# Altium integrated library Altera EPC Configuration Device.IntLib: 34 symbols (part 2 of 3)
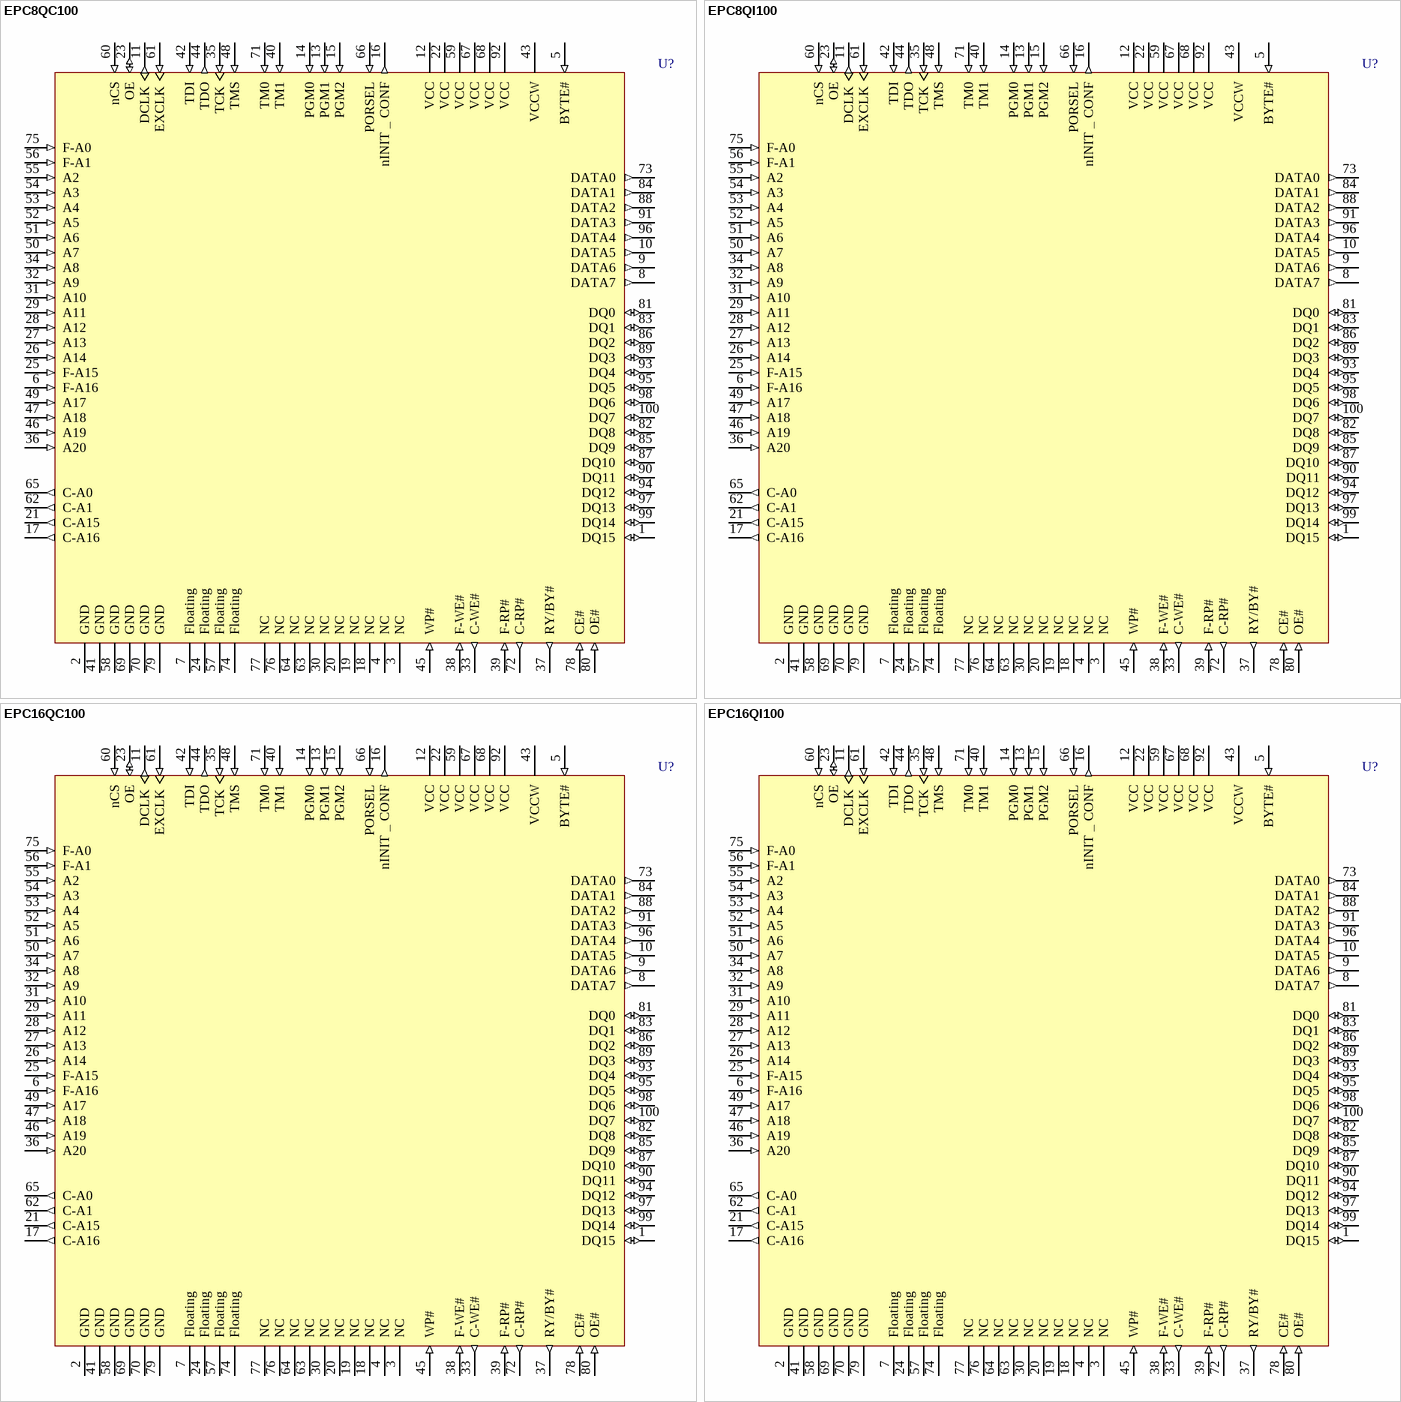
[diagram p3: symbols EPC8QC100 to EPC16QI100]

## EPC16QC100
designator U?
EPC16 Series, In-system programmable 3.3V configuration device, 100-Pin PQFP, 16-Megabit, Commercial Grade; Configures: Stratix II, Stratix, Stratix GX, Cyclone II, Cyclone, APEX II, APEX, FLEX, Mercury, ACEX & Excalibur Devices; Published: 17-Sep-2003; LatestRevisionDate: 13-Apr-2006; LatestRevisionNote: IPC-7351 Footprint Added.; DatasheetVersion: ver2.0, Oct-2003; PackageVersion: ver14.3, Jul-2006; PackageReference: PQFP100; Publisher: Altium Limited; PackageDescription: 100-Pin Plastic Quad Flat Pack (PFQP100) - Option 1; Supplier 1: Digi-Key; Supplier Part Number 1: 544-1226-ND; Code_JEDEC: MS-022-GC-1; Code_IPC: QFP65P1720X2320-100; ComponentLink1Description: Manufacturer Link; ComponentLink1URL: http://www.altera.com/products/devices/config/cfg-index.html; ComponentLink2Description: Configuration Handbook; ComponentLink2URL: http://www.altera.com/literature/hb/cfg/config_handbook.pdf; ComponentLink3Description: Pinout Specification; ComponentLink3URL: http://www.altera.com/literature/dp/config/epc16.txt; ComponentLink4Description: Packaging Specification; ComponentLink4URL: http://www.altera.com/literature/ds/dspkg.pdf
footprint PQFP100_N (QFP, 100-Leads, Body 20x14mm, Pitch 0.65mm, IPC Medium Density)
footprint PQFP100_L (QFP, 100-Leads, Body 20x14mm, Pitch 0.65mm, IPC High Density)
footprint PQFP100_M (QFP, 100-Leads, Body 20x14mm, Pitch 0.65mm, IPC Low Density)
3D model EPC16-PQFP100 (100-Pin Plastic Quad Flat Pack (PFQP100) - Option 1)
pins: 1 DQ15 (io) "Data bus that interfaces with flash memory and the controller.", 2 GND (power) "Ground pin", 3 NC "No Connect pin", 4 NC "No Connect pin", 5 BYTE# (in) "Flash byte enable. Connected to VCC.", 6 F-A16 (in) "Address input to flash memory. Should be connected to C-A16 on the board.", 7 Floating "Unconnected pin", 8 DATA7 (out) "PLD configuration output data bus.", 9 DATA6 (out) "PLD configuration output data bus.", 10 DATA5 (out) "PLD configuration output data bus.", 11 DCLK (out) "Configuration devices drive this signal to the programmable logic device (PLD) as a configuration clock.", 12 VCC (power) "Power supply pin", 13 PGM1 (in) "Select one of eight pages that contains configuration data.", 14 PGM0 (in) "Select one of eight pages that contains configuration data.", 15 PGM2 (in) "Select one of eight pages that contains configuration data.", 16 nINIT _ CONF (out) "Initiate configuration.", 17 C-A16 (out) "Address input to flash memory. Should be connected to F-A16 on the board.", 18 NC "No Connect pin", 19 NC "No Connect pin", 20 NC "No Connect pin", 21 C-A15 (out) "Address input to flash memory. Should be connected to F-A15 on the board.", 22 VCC (power) "Power supply pin", 23 OE (io) "Configuration devices sense that OE goes high, before starting PLD configuration.", 24 Floating "Unconnected pin", 25 F-A15 (in) "Address input to flash memory. Should be connected to C-A15 on the board.", 26 A14 (in) "Address input to flash memory.", 27 A13 (in) "Address input to flash memory.", 28 A12 (in) "Address input to flash memory.", 29 A11 (in) "Address input to flash memory.", 30 NC "No Connect pin", 31 A10 (in) "Address input to flash memory.", 32 A9 (in) "Address input to flash memory.", 33 C-WE# (out) "Controller write enable pin. Should be connected to F-WE# on the board", 34 A8 (in) "Address input to flash memory.", 35 TCK (in) "JTAG clock.", 36 A20 (in) "Address input to flash memory.", 37 RY/BY# (out) "Flash ready busy pin. Will be asserted when write or erase operation is completed.", 38 F-WE# (in) "Flash write enable pin. Should be connected to C-WE# on the board", 39 F-RP# (in) "Flash pin which resets the flash memory. Should be connected to C-RP# on the board.", 40 TM1 (in) "Select test mode for configuration device.", 41 GND (power) "Ground pin", 42 TDI (in) "Joint Test Action Group (JTAG) data input.", 43 VCCW (power) "Flash program/erase power supply.", 44 TDO (out) "JTAG data output.", 45 WP# (in) "Flash pin which should be tied to VCC or GND on the board.", 46 A19 (in) "Address input to flash memory.", 47 A18 (in) "Address input to flash memory.", 48 TMS (in) "JTAG mode selection.", 49 A17 (in) "Address input to flash memory.", 50 A7 (in) "Address input to flash memory.", 51 A6 (in) "Address input to flash memory.", 52 A5 (in) "Address input to flash memory.", 53 A4 (in) "Address input to flash memory.", 54 A3 (in) "Address input to flash memory.", 55 A2 (in) "Address input to flash memory.", 56 F-A1 (in) "Address input to flash memory. Should be connected to C-A1 on the board.", 57 Floating "Unconnected pin", 58 GND (power) "Ground pin", 59 VCC (power) "Power supply pin", 60 nCS (in) "Connected to CONF_DONE in the PLD. The PLD will drive it low, when OE is asserted.", 61 EXCLK (in) "External clock source.", 62 C-A1 (out) "Address input to flash memory. Should be connected to F-A1 on the board.", 63 NC "No Connect pin", 64 NC "No Connect pin", 65 C-A0 (out) "Address input to flash memory. Should be connected to F-A0 on the board.", 66 PORSEL (in) "Select 2 ms or 100 ms power-on reset (POR).", 67 VCC (power) "Power supply pin", 68 VCC (power) "Power supply pin", 69 GND (power) "Ground pin", 70 GND (power) "Ground pin", 71 TM0 (in) "Select test mode for configuration device.", 72 C-RP# (out) "Flash pin which resets the flash memory. Should be connected to F-RP# on the board.", 73 DATA0 (out) "PLD configuration output data bus.", 74 Floating "Unconnected pin", 75 F-A0 (in) "Address input to Flash memory. Should be connected to C-A0 on the board.", 76 NC "No Connect pin", 77 NC "No Connect pin", 78 CE# (in) "Flash pin that activates the flash memory.", 79 GND (power) "Ground pin", 80 OE# (in) "Flash pin that enables the drivers of the flash output pins.", 81 DQ0 (io) "Data bus that interfaces with flash memory and the controller.", 82 DQ8 (io) "Data bus that interfaces with flash memory and the controller.", 83 DQ1 (io) "Data bus that interfaces with flash memory and the controller.", 84 DATA1 (out) "PLD configuration output data bus.", 85 DQ9 (io) "Data bus that interfaces with flash memory and the controller.", 86 DQ2 (io) "Data bus that interfaces with flash memory and the controller.", 87 DQ10 (io) "Data bus that interfaces with flash memory and the controller.", 88 DATA2 (out) "PLD configuration output data bus.", 89 DQ3 (io) "Data bus that interfaces with flash memory and the controller.", 90 DQ11 (io) "Data bus that interfaces with flash memory and the controller.", 91 DATA3 (out) "PLD configuration output data bus.", 92 VCC (power) "Power supply pin", 93 DQ4 (io) "Data bus that interfaces with flash memory and the controller.", 94 DQ12 (io) "Data bus that interfaces with flash memory and the controller.", 95 DQ5 (io) "Data bus that interfaces with flash memory and the controller.", 96 DATA4 (out) "PLD configuration output data bus.", 97 DQ13 (io) "Data bus that interfaces with flash memory and the controller.", 98 DQ6 (io) "Data bus that interfaces with flash memory and the controller.", 99 DQ14 (io) "Data bus that interfaces with flash memory and the controller.", 100 DQ7 (io) "Data bus that interfaces with flash memory and the controller."

## EPC16QI100
designator U?
EPC16 Series, In-system programmable 3.3V configuration device, 100-Pin PQFP, 16-Megabit, Industrial Grade; Configures: Stratix II, Stratix, Stratix GX, Cyclone II, Cyclone, APEX II, APEX, FLEX, Mercury, ACEX & Excalibur Devices; Published: 17-Sep-2003; LatestRevisionDate: 13-Apr-2006; LatestRevisionNote: IPC-7351 Footprint Added.; DatasheetVersion: ver2.0, Oct-2003; PackageVersion: ver14.3, Jul-2006; PackageReference: PQFP100; Publisher: Altium Limited; PackageDescription: 100-Pin Plastic Quad Flat Pack (PFQP100) - Option 1; Supplier 1: Digi-Key; Supplier Part Number 1: 544-1227-ND; Code_JEDEC: MS-022-GC-1; Code_IPC: QFP65P1720X2320-100; ComponentLink1Description: Manufacturer Link; ComponentLink1URL: http://www.altera.com/products/devices/config/cfg-index.html; ComponentLink2Description: Configuration Handbook; ComponentLink2URL: http://www.altera.com/literature/hb/cfg/config_handbook.pdf; ComponentLink3Description: Pinout Specification; ComponentLink3URL: http://www.altera.com/literature/dp/config/epc16.txt; ComponentLink4Description: Packaging Specification; ComponentLink4URL: http://www.altera.com/literature/ds/dspkg.pdf
footprint PQFP100_N (QFP, 100-Leads, Body 20x14mm, Pitch 0.65mm, IPC Medium Density)
footprint PQFP100_L (QFP, 100-Leads, Body 20x14mm, Pitch 0.65mm, IPC High Density)
footprint PQFP100_M (QFP, 100-Leads, Body 20x14mm, Pitch 0.65mm, IPC Low Density)
3D model EPC16-PQFP100 (100-Pin Plastic Quad Flat Pack (PFQP100) - Option 1)
pins: 1 DQ15 (io) "Data bus that interfaces with flash memory and the controller.", 2 GND (power) "Ground pin", 3 NC "No Connect pin", 4 NC "No Connect pin", 5 BYTE# (in) "Flash byte enable. Connected to VCC.", 6 F-A16 (in) "Address input to flash memory. Should be connected to C-A16 on the board.", 7 Floating "Unconnected pin", 8 DATA7 (out) "PLD configuration output data bus.", 9 DATA6 (out) "PLD configuration output data bus.", 10 DATA5 (out) "PLD configuration output data bus.", 11 DCLK (out) "Configuration devices drive this signal to the programmable logic device (PLD) as a configuration clock.", 12 VCC (power) "Power supply pin", 13 PGM1 (in) "Select one of eight pages that contains configuration data.", 14 PGM0 (in) "Select one of eight pages that contains configuration data.", 15 PGM2 (in) "Select one of eight pages that contains configuration data.", 16 nINIT _ CONF (out) "Initiate configuration.", 17 C-A16 (out) "Address input to flash memory. Should be connected to F-A16 on the board.", 18 NC "No Connect pin", 19 NC "No Connect pin", 20 NC "No Connect pin", 21 C-A15 (out) "Address input to flash memory. Should be connected to F-A15 on the board.", 22 VCC (power) "Power supply pin", 23 OE (io) "Configuration devices sense that OE goes high, before starting PLD configuration.", 24 Floating "Unconnected pin", 25 F-A15 (in) "Address input to flash memory. Should be connected to C-A15 on the board.", 26 A14 (in) "Address input to flash memory.", 27 A13 (in) "Address input to flash memory.", 28 A12 (in) "Address input to flash memory.", 29 A11 (in) "Address input to flash memory.", 30 NC "No Connect pin", 31 A10 (in) "Address input to flash memory.", 32 A9 (in) "Address input to flash memory.", 33 C-WE# (out) "Controller write enable pin. Should be connected to F-WE# on the board", 34 A8 (in) "Address input to flash memory.", 35 TCK (in) "JTAG clock.", 36 A20 (in) "Address input to flash memory.", 37 RY/BY# (out) "Flash ready busy pin. Will be asserted when write or erase operation is completed.", 38 F-WE# (in) "Flash write enable pin. Should be connected to C-WE# on the board", 39 F-RP# (in) "Flash pin which resets the flash memory. Should be connected to C-RP# on the board.", 40 TM1 (in) "Select test mode for configuration device.", 41 GND (power) "Ground pin", 42 TDI (in) "Joint Test Action Group (JTAG) data input.", 43 VCCW (power) "Flash program/erase power supply.", 44 TDO (out) "JTAG data output.", 45 WP# (in) "Flash pin which should be tied to VCC or GND on the board.", 46 A19 (in) "Address input to flash memory.", 47 A18 (in) "Address input to flash memory.", 48 TMS (in) "JTAG mode selection.", 49 A17 (in) "Address input to flash memory.", 50 A7 (in) "Address input to flash memory.", 51 A6 (in) "Address input to flash memory.", 52 A5 (in) "Address input to flash memory.", 53 A4 (in) "Address input to flash memory.", 54 A3 (in) "Address input to flash memory.", 55 A2 (in) "Address input to flash memory.", 56 F-A1 (in) "Address input to flash memory. Should be connected to C-A1 on the board.", 57 Floating "Unconnected pin", 58 GND (power) "Ground pin", 59 VCC (power) "Power supply pin", 60 nCS (in) "Connected to CONF_DONE in the PLD. The PLD will drive it low, when OE is asserted.", 61 EXCLK (in) "External clock source.", 62 C-A1 (out) "Address input to flash memory. Should be connected to F-A1 on the board.", 63 NC "No Connect pin", 64 NC "No Connect pin", 65 C-A0 (out) "Address input to flash memory. Should be connected to F-A0 on the board.", 66 PORSEL (in) "Select 2 ms or 100 ms power-on reset (POR).", 67 VCC (power) "Power supply pin", 68 VCC (power) "Power supply pin", 69 GND (power) "Ground pin", 70 GND (power) "Ground pin", 71 TM0 (in) "Select test mode for configuration device.", 72 C-RP# (out) "Flash pin which resets the flash memory. Should be connected to F-RP# on the board.", 73 DATA0 (out) "PLD configuration output data bus.", 74 Floating "Unconnected pin", 75 F-A0 (in) "Address input to Flash memory. Should be connected to C-A0 on the board.", 76 NC "No Connect pin", 77 NC "No Connect pin", 78 CE# (in) "Flash pin that activates the flash memory.", 79 GND (power) "Ground pin", 80 OE# (in) "Flash pin that enables the drivers of the flash output pins.", 81 DQ0 (io) "Data bus that interfaces with flash memory and the controller.", 82 DQ8 (io) "Data bus that interfaces with flash memory and the controller.", 83 DQ1 (io) "Data bus that interfaces with flash memory and the controller.", 84 DATA1 (out) "PLD configuration output data bus.", 85 DQ9 (io) "Data bus that interfaces with flash memory and the controller.", 86 DQ2 (io) "Data bus that interfaces with flash memory and the controller.", 87 DQ10 (io) "Data bus that interfaces with flash memory and the controller.", 88 DATA2 (out) "PLD configuration output data bus.", 89 DQ3 (io) "Data bus that interfaces with flash memory and the controller.", 90 DQ11 (io) "Data bus that interfaces with flash memory and the controller.", 91 DATA3 (out) "PLD configuration output data bus.", 92 VCC (power) "Power supply pin", 93 DQ4 (io) "Data bus that interfaces with flash memory and the controller.", 94 DQ12 (io) "Data bus that interfaces with flash memory and the controller.", 95 DQ5 (io) "Data bus that interfaces with flash memory and the controller.", 96 DATA4 (out) "PLD configuration output data bus.", 97 DQ13 (io) "Data bus that interfaces with flash memory and the controller.", 98 DQ6 (io) "Data bus that interfaces with flash memory and the controller.", 99 DQ14 (io) "Data bus that interfaces with flash memory and the controller.", 100 DQ7 (io) "Data bus that interfaces with flash memory and the controller."

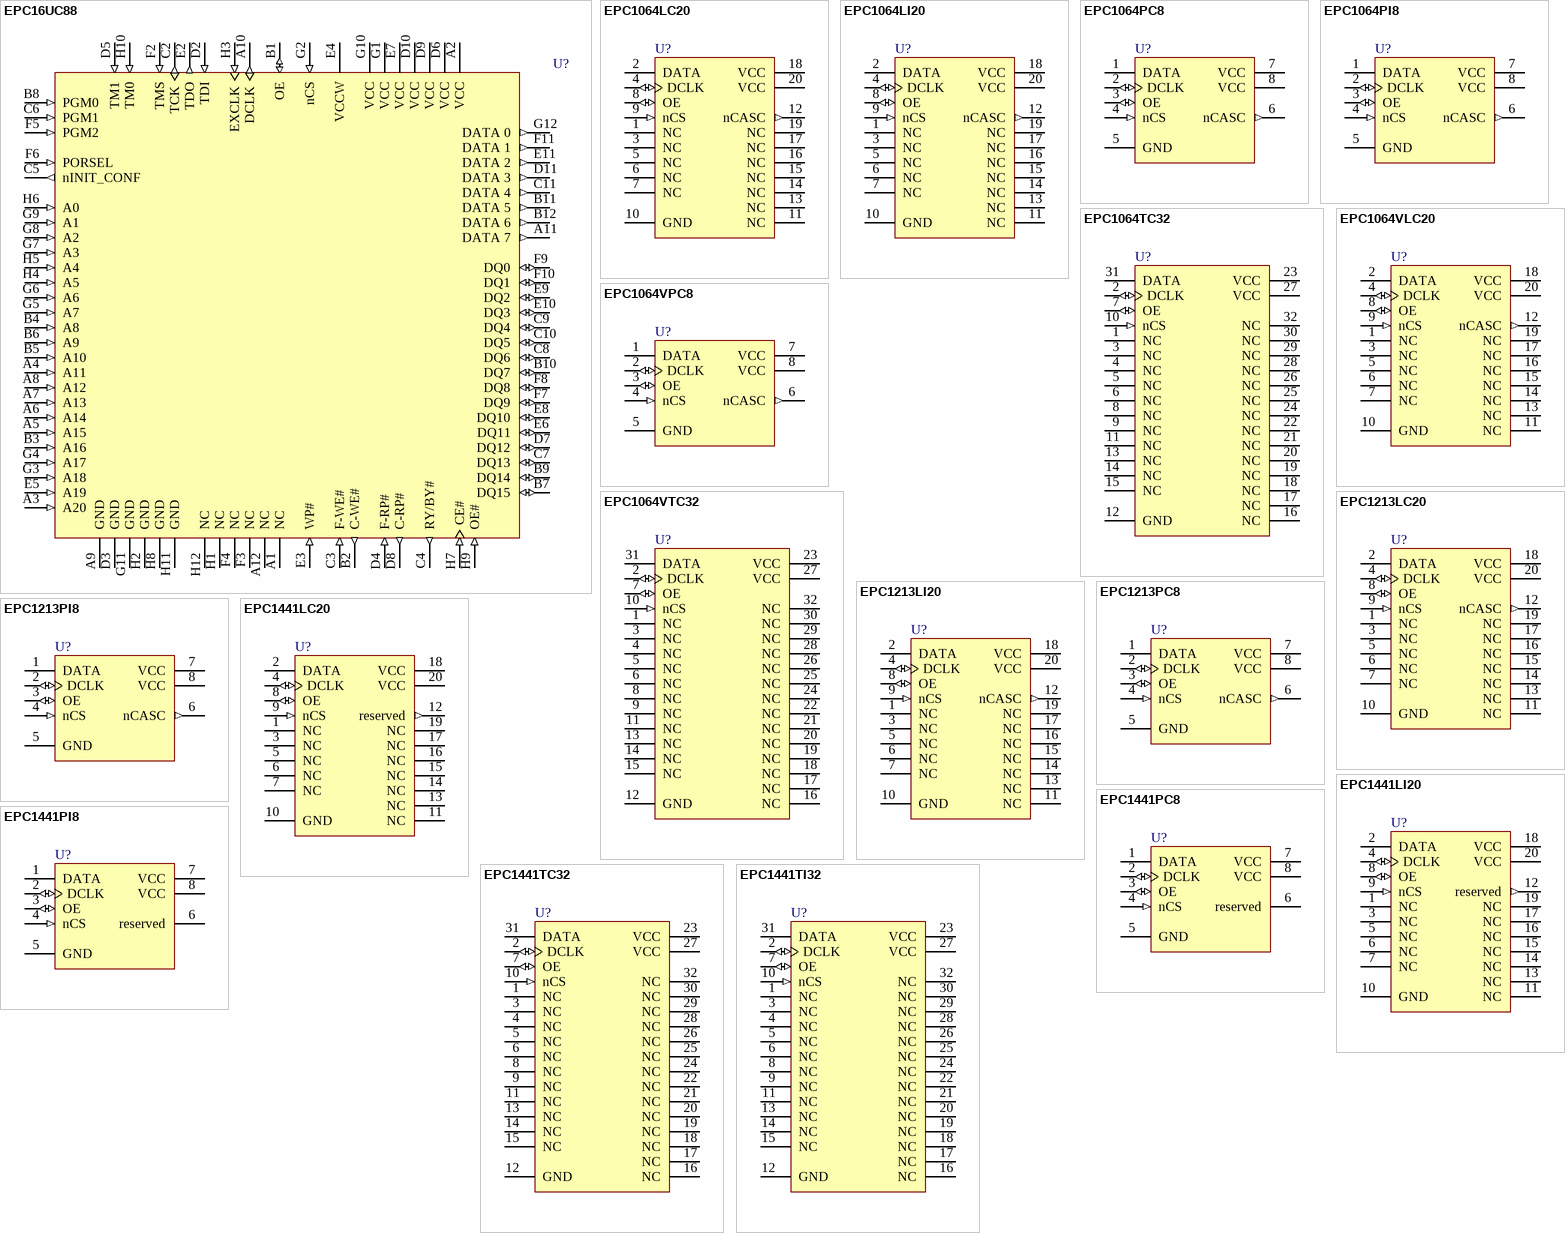
[diagram p2: symbols EPC16UC88 to EPC1441TI32]

## EPC16UC88
designator U?
EPC16 Series, In-system programmable 3.3V configuration device, 88-Pin UBGA, 16-Megabit, Commercial Grade; Configures: Stratix II, Stratix, Stratix GX, Cyclone II, Cyclone, APEX II, APEX, FLEX, Mercury, ACEX & Excalibur Devices; Published: 17-Sep-2003; LatestRevisionDate: 13-Apr-2006; LatestRevisionNote: IPC-7351 Footprint Added.; DatasheetVersion: ver2.0, Oct-2003; PackageVersion: ver14.2, Oct-2005; PackageReference: UBGA88; Publisher: Altium Limited; PackageDescription: 88-Pin Ultra FineLine Ball Grid Array (UBGA88); Supplier 1: Digi-Key; Supplier Part Number 1: 544-1228-ND; Code_JEDEC: MO-219; ComponentLink1Description: Manufacturer Link; ComponentLink1URL: http://www.altera.com/products/devices/config/cfg-index.html; ComponentLink2Description: Configuration Handbook; ComponentLink2URL: http://www.altera.com/literature/hb/cfg/config_handbook.pdf; ComponentLink3Description: Pinout Specification; ComponentLink3URL: http://www.altera.com/literature/dp/config/epc16_88.txt; ComponentLink4Description: Packaging Specification; ComponentLink4URL: http://www.altera.com/literature/ds/dspkg.pdf
footprint UBGA88 (BGA, 88-Leads, Body 8x11mm, Pitch 0.8mm)
3D model EPC16-UBGA88 (88-Pin Ultra FineLine Ball Grid Array (UBGA88))
pins: A1 NC "No Connect", A2 VCC (power) "Power Supply", A3 A20 (in) "Address input", A4 A11 (in) "Address input", A5 A15 (in) "Address input", A6 A14 (in) "Address input", A7 A13 (in) "Address input", A8 A12 (in) "Address input", A9 GND (power) "Ground", A10 DCLK (out), A11 DATA 7 (out) "PLD configuration output data bus", A12 NC "No Connect", B1 OE (io), B2 C-WE# (out) "Controller write enable pin. Should be connected to F-WE# on the board.", B3 A16 (in) "Address input", B4 A8 (in) "Address input", B5 A10 (in) "Address input", B6 A9 (in) "Address input", B7 DQ15 (io) "Data bus", B8 PGM0 (in) "Select page of configuration data.", B9 DQ14 (io) "Data bus", B10 DQ7 (io) "Data bus", B11 DATA 5 (out) "PLD configuration output data bus", B12 DATA 6 (out) "PLD configuration output data bus", C2 TCK (out) "JTAG clock pin", C3 F-WE# (in) "Write enable pin. Should be connected to C-WE# on the board", C4 RY/BY# (out) "Flash ready busy pin", C5 nINIT_CONF (out) "Initiate configuration.", C6 PGM1 (in) "Select page of configuration data.", C7 DQ13 (io) "Data bus", C8 DQ6 (io) "Data bus", C9 DQ4 (io) "Data bus", C10 DQ5 (io) "Data bus", C11 DATA 4 (out) "PLD configuration output data bus", D2 TDI (in) "JTAG data input", D3 GND (power) "Ground", D4 F-RP# (in) "Resets the flash memory. Should be connected to C-RP# on the board.", D5 TM1 (in) "Select test mode", D6 VCC (power) "Power Supply", D7 DQ12 (io) "Data bus", D8 C-RP# (out) "Flash pin that resets the flash memory. Should be connected to F-RP# on the board.", D9 VCC (power) "Power Supply", D10 VCC (power) "Power Supply", D11 DATA 3 (out) "PLD configuration output data bus", E2 TDO (out) "JTAG data output", E3 WP# (in) "Flash pin which should be tied to VCC or GND", E4 VCCW (power) "Flash program/erase power supply", E5 A19 (in) "Address input", E6 DQ11 (io) "Data bus", E7 VCC (power) "Power Supply", E8 DQ10 (io) "Data bus", E9 DQ2 (io) "Data bus", E10 DQ3 (io) "Data bus", E11 DATA 2 (out) "PLD configuration output data bus", F2 TMS (in) "JTAG mode selection", F3 NC "No Connect", F4 NC "No Connect", F5 PGM2 (in) "Select page of configuration data", F6 PORSEL (in) "Select 2 ms or 100 ms power-on reset", F7 DQ9 (io) "Data bus", F8 DQ8 (io) "Data bus", F9 DQ0 (io) "Data bus", F10 DQ1 (io) "Data bus", F11 DATA 1 (out) "PLD configuration output data bus", G1 VCC (power) "Power Supply", G2 nCS (in), G3 A18 (in) "Address input", G4 A17 (in) "Address input", G5 A7 (in) "Address input", G6 A6 (in) "Address input", G7 A3 (in) "Address input", G8 A2 (in) "Address input", G9 A1 (in) "Address input", G10 VCC (power) "Power Supply", G11 GND (power) "Ground", G12 DATA 0 (out) "PLD configuration output data bus", H1 NC "No Connect", H2 GND (power) "Ground", H3 EXCLK (in) "External clock source", H4 A5 (in) "Address input", H5 A4 (in) "Address input", H6 A0 (in) "Address input", H7 CE# (in) "Activates the flash memory", H8 GND (power) "Ground", H9 OE# (in) "Enables the drivers of the flash output pins.", H10 TM0 (in) "Select test mode", H11 GND (power) "Ground", H12 NC "No Connect"

## EPC1064LC20
designator U?
EPC1064 Series, One-time programmable 5V configuration device, 20-Pin PLCC, 64-Kilobit, Commercial Grade; Configures: APEX II, APEX 20K, Mercury, ACEX 1K & FLEX Devices; Published: 24-Nov-2000; LatestRevisionDate: 13-Apr-2006; LatestRevisionNote: IPC-7351 Footprint Added.; DatasheetVersion: ver2.0, Oct-2003; PackageVersion: ver14.2, Oct-2005; PackageReference: PLCC20; Publisher: Altium Limited; PackageDescription: 20-Pin Plastic J-Lead Chip Carrier (PLCC20); Code_JEDEC: MS-018-AA; Code_IPC: PLCC-20; ComponentLink1Description: Manufacturer Link; ComponentLink1URL: http://www.altera.com/products/devices/config/cfg-index.html; ComponentLink2Description: Configuration Handbook; ComponentLink2URL: http://www.altera.com/literature/hb/cfg/config_handbook.pdf; ComponentLink3Description: Pinout Specification; ComponentLink3URL: http://www.altera.com/literature/hb/cfg/cfg_cf52004.pdf; ComponentLink4Description: Packaging Specification; ComponentLink4URL: http://www.altera.com/literature/ds/dspkg.pdf
footprint PLCC20_N (Leaded Chip Carrier, 20-Leads, Body 9x9mm, Pitch 1.27mm, IPC Medium Density)
footprint PLCC20_L (Leaded Chip Carrier, 20-Leads, Body 9x9mm, Pitch 1.27mm, IPC High Density)
footprint PLCC20_M (Leaded Chip Carrier, 20-Leads, Body 9x9mm, Pitch 1.27mm, IPC Low Density)
3D model EPC1064-PLCC20 (20-Pin Plastic J-Lead Chip Carrier (PLCC20))
pins: 1 NC "No Connect", 2 DATA (hiz) "Serial data out", 3 NC "No Connect", 4 DCLK (io), 5 NC "No Connect", 6 NC "No Connect", 7 NC "No Connect", 8 OE (io) "Output enable, and active low reset", 9 nCS (in) "Active low, chip select input", 10 GND (power) "Ground", 11 NC "No Connect", 12 nCASC (out) "Active low, cascade select output", 13 NC "No Connect", 14 NC "No Connect", 15 NC "No Connect", 16 NC "No Connect", 17 NC "No Connect", 18 VCC (power) "Power Supply", 19 NC "No Connect", 20 VCC (power) "Power Supply"

## EPC1064LI20
designator U?
EPC1064 Series, One-time programmable 5V configuration device, 20-Pin PLCC, 64-Kilobit, Industrial Grade; Configures: APEX II, APEX 20K, Mercury, ACEX 1K & FLEX Devices; Published: 24-Nov-2000; LatestRevisionDate: 13-Apr-2006; LatestRevisionNote: IPC-7351 Footprint Added.; DatasheetVersion: ver2.0, Oct-2003; PackageVersion: ver14.2, Oct-2005; PackageReference: PLCC20; Publisher: Altium Limited; PackageDescription: 20-Pin Plastic J-Lead Chip Carrier (PLCC20); Supplier 1: Digi-Key; Supplier Part Number 1: 544-1367-5-ND; Code_JEDEC: MS-018-AA; Code_IPC: PLCC-20; ComponentLink1Description: Manufacturer Link; ComponentLink1URL: http://www.altera.com/products/devices/config/cfg-index.html; ComponentLink2Description: Configuration Handbook; ComponentLink2URL: http://www.altera.com/literature/hb/cfg/config_handbook.pdf; ComponentLink3Description: Pinout Specification; ComponentLink3URL: http://www.altera.com/literature/hb/cfg/cfg_cf52004.pdf; ComponentLink4Description: Packaging Specification; ComponentLink4URL: http://www.altera.com/literature/ds/dspkg.pdf
footprint PLCC20_N (Leaded Chip Carrier, 20-Leads, Body 9x9mm, Pitch 1.27mm, IPC Medium Density)
footprint PLCC20_L (Leaded Chip Carrier, 20-Leads, Body 9x9mm, Pitch 1.27mm, IPC High Density)
footprint PLCC20_M (Leaded Chip Carrier, 20-Leads, Body 9x9mm, Pitch 1.27mm, IPC Low Density)
3D model EPC1064-PLCC20 (20-Pin Plastic J-Lead Chip Carrier (PLCC20))
pins: 1 NC "No Connect", 2 DATA (hiz) "Serial data out", 3 NC "No Connect", 4 DCLK (io), 5 NC "No Connect", 6 NC "No Connect", 7 NC "No Connect", 8 OE (io) "Output enable, and active low reset", 9 nCS (in) "Active low, chip select input", 10 GND (power) "Ground", 11 NC "No Connect", 12 nCASC (out) "Active low, cascade select output", 13 NC "No Connect", 14 NC "No Connect", 15 NC "No Connect", 16 NC "No Connect", 17 NC "No Connect", 18 VCC (power) "Power Supply", 19 NC "No Connect", 20 VCC (power) "Power Supply"

## EPC1064PC8
designator U?
EPC1064 Series, One-time programmable 5V configuration device, 8-Pin PDIP, 64-Kilobit, Commercial Grade; Configures: APEX II, APEX 20K, Mercury, ACEX 1K & FLEX Devices; Published: 24-Nov-2000; LatestRevisionDate: 4-Mar-2004; LatestRevisionNote: in 6 corrected; DatasheetVersion: ver2.0, Oct-2003; PackageVersion: ver14.2, Oct-2005; PackageReference: PDIP8; Publisher: Altium Limited; PackageDescription: 8-Pin Plastic Dual In-Line Package (PDIP); Supplier 1: Digi-Key; Supplier Part Number 1: 544-1221-5-ND; Supplier 2: Farnell; Supplier Part Number 2: 1783974; Code_JEDEC: MS-001-BA; ComponentLink1Description: Manufacturer Link; ComponentLink1URL: http://www.altera.com/products/devices/config/cfg-index.html; ComponentLink2Description: Configuration Handbook; ComponentLink2URL: http://www.altera.com/literature/hb/cfg/config_handbook.pdf; ComponentLink3Description: Pinout Specification; ComponentLink3URL: http://www.altera.com/literature/hb/cfg/cfg_cf52004.pdf; ComponentLink4Description: Packaging Specification; ComponentLink4URL: http://www.altera.com/literature/ds/dspkg.pdf
footprint PDIP8 (DIP, 8-Leads, Row Spacing 7.62mm, Pitch 2.54mm, Body 9.4x6.35mm)
pins: 1 DATA (hiz) "Serial data out", 2 DCLK (io), 3 OE (io) "Output enable, and active low reset", 4 nCS (in) "Active low, chip select input", 5 GND (power) "Ground", 6 nCASC (out) "Active low, cascade select output", 7 VCC (power) "3.3V supply", 8 VCC (power) "3.3V supply"

## EPC1064PI8
designator U?
EPC1064 Series, One-time programmable 5V configuration device, 8-Pin PDIP, 64-Kilobit, Industrial Grade; Configures: APEX II, APEX 20K, Mercury, ACEX 1K & FLEX Devices; Published: 24-Nov-2000; LatestRevisionDate: 4-Mar-2004; LatestRevisionNote: in 6 corrected; DatasheetVersion: ver2.0, Oct-2003; PackageVersion: ver14.2, Oct-2005; PackageReference: PDIP8; Publisher: Altium Limited; PackageDescription: 8-Pin Plastic Dual In-Line Package (PDIP); Supplier 1: Digi-Key; Supplier Part Number 1: 544-1368-5-ND; Code_JEDEC: MS-001-BA; ComponentLink1Description: Manufacturer Link; ComponentLink1URL: http://www.altera.com/products/devices/config/cfg-index.html; ComponentLink2Description: Configuration Handbook; ComponentLink2URL: http://www.altera.com/literature/hb/cfg/config_handbook.pdf; ComponentLink3Description: Pinout Specification; ComponentLink3URL: http://www.altera.com/literature/hb/cfg/cfg_cf52004.pdf; ComponentLink4Description: Packaging Specification; ComponentLink4URL: http://www.altera.com/literature/ds/dspkg.pdf
footprint PDIP8 (DIP, 8-Leads, Row Spacing 7.62mm, Pitch 2.54mm, Body 9.4x6.35mm)
pins: 1 DATA (hiz) "Serial data out", 2 DCLK (io), 3 OE (io) "Output enable, and active low reset", 4 nCS (in) "Active low, chip select input", 5 GND (power) "Ground", 6 nCASC (out) "Active low, cascade select output", 7 VCC (power) "3.3V supply", 8 VCC (power) "3.3V supply"

## EPC1064TC32
designator U?
EPC1064 Series, One-time programmable 5V configuration device, 32-Pin TQFP, 64-Kilobit, Commercial Grade; Configures: APEX II, APEX 20K, Mercury, ACEX 1K & FLEX Devices; Published: 24-Nov-2000; LatestRevisionDate: 13-Apr-2006; LatestRevisionNote: IPC-7351 Footprint Added.; DatasheetVersion: ver2.0, Oct-2003; PackageVersion: ver14.2, Oct-2005; PackageReference: TQFP32; Publisher: Altium Limited; PackageDescription: 32-Pin Plastic Thin Quad Flat Pack (TFQP32); Code_JEDEC: MS-026-ABA; ComponentLink1Description: Manufacturer Link; ComponentLink1URL: http://www.altera.com/products/devices/config/cfg-index.html; ComponentLink2Description: Configuration Handbook; ComponentLink2URL: http://www.altera.com/literature/hb/cfg/config_handbook.pdf; ComponentLink3Description: Pinout Specification; ComponentLink3URL: http://www.altera.com/literature/hb/cfg/cfg_cf52004.pdf; ComponentLink4Description: Packaging Specification; ComponentLink4URL: http://www.altera.com/literature/ds/dspkg.pdf; ComponentLink5Description: Discontinuation Notice; ComponentLink5URL: http://www.altera.com/literature/pcn/pdn0314.pdf
footprint TQFP32_N (Thin QFP, 32-Leads, Body 7x7mm, Pitch 0.8mm, IPC Medium Density)
footprint TQFP32_L (Thin QFP, 32-Leads, Body 7x7mm, Pitch 0.8mm, IPC High Density)
footprint TQFP32_M (Thin QFP, 32-Leads, Body 7x7mm, Pitch 0.8mm, IPC Low Density)
3D model EPC1064-TQFP32 (32-Pin Plastic Thin Quad Flat Pack (TFQP32))
pins: 1 NC "No Connect", 2 DCLK (io), 3 NC "No Connect", 4 NC "No Connect", 5 NC "No Connect", 6 NC "No Connect", 7 OE (io) "Output enable, and active low reset", 8 NC "No Connect", 9 NC "No Connect", 10 nCS (in) "Active low, chip select input", 11 NC "No Connect", 12 GND (power) "Ground", 13 NC "No Connect", 14 NC "No Connect", 15 NC "No Connect", 16 NC "No Connect", 17 NC "No Connect", 18 NC "No Connect", 19 NC "No Connect", 20 NC "No Connect", 21 NC "No Connect", 22 NC "No Connect", 23 VCC (power) "Power Supply", 24 NC "No Connect", 25 NC "No Connect", 26 NC "No Connect", 27 VCC (power) "Power Supply", 28 NC "No Connect", 29 NC "No Connect", 30 NC "No Connect", 31 DATA (hiz) "Serial data out", 32 NC "No Connect"

## EPC1064VLC20
designator U?
EPC1064 Series, One-time programmable 3.3V configuration device, 20-Pin PLCC, 64-Kilobit, Commercial Grade; Configures: APEX II, APEX 20K, Mercury, ACEX 1K & FLEX Devices; Published: 24-Nov-2000; LatestRevisionDate: 13-Apr-2006; LatestRevisionNote: IPC-7351 Footprint Added.; DatasheetVersion: ver2.0, Oct-2003; PackageVersion: ver14.2, Oct-2005; PackageReference: PLCC20; Publisher: Altium Limited; PackageDescription: 20-Pin Plastic J-Lead Chip Carrier (PLCC20); Code_JEDEC: MS-018-AA; Code_IPC: PLCC-20; ComponentLink1Description: Manufacturer Link; ComponentLink1URL: http://www.altera.com/products/devices/config/cfg-index.html; ComponentLink2Description: Configuration Handbook; ComponentLink2URL: http://www.altera.com/literature/hb/cfg/config_handbook.pdf; ComponentLink3Description: Pinout Specification; ComponentLink3URL: http://www.altera.com/literature/hb/cfg/cfg_cf52004.pdf; ComponentLink4Description: Packaging Specification; ComponentLink4URL: http://www.altera.com/literature/ds/dspkg.pdf; ComponentLink5Description: Discontinuation Notice; ComponentLink5URL: http://www.altera.com/literature/pcn/pdn0314.pdf
footprint PLCC20_N (Leaded Chip Carrier, 20-Leads, Body 9x9mm, Pitch 1.27mm, IPC Medium Density)
footprint PLCC20_L (Leaded Chip Carrier, 20-Leads, Body 9x9mm, Pitch 1.27mm, IPC High Density)
footprint PLCC20_M (Leaded Chip Carrier, 20-Leads, Body 9x9mm, Pitch 1.27mm, IPC Low Density)
3D model EPC1064V-PLCC20 (20-Pin Plastic J-Lead Chip Carrier (PLCC20))
pins: 1 NC "No Connect", 2 DATA (hiz) "Serial data out", 3 NC "No Connect", 4 DCLK (io), 5 NC "No Connect", 6 NC "No Connect", 7 NC "No Connect", 8 OE (io) "Output enable, and active low reset", 9 nCS (in) "Active low, chip select input", 10 GND (power) "Ground", 11 NC "No Connect", 12 nCASC (out) "Active low, cascade select output", 13 NC "No Connect", 14 NC "No Connect", 15 NC "No Connect", 16 NC "No Connect", 17 NC "No Connect", 18 VCC (power) "Power Supply", 19 NC "No Connect", 20 VCC (power) "Power Supply"

## EPC1064VPC8
designator U?
EPC1064 Series, One-time programmable 3.3V configuration device, 8-Pin PDIP, 64-Kilobit, Commercial Grade; Configures: APEX II, APEX 20K, Mercury, ACEX 1K & FLEX Devices; Published: 24-Nov-2000; LatestRevisionDate: 4-Mar-2004; LatestRevisionNote: in 6 corrected; DatasheetVersion: ver2.0, Oct-2003; PackageVersion: ver14.2, Oct-2005; PackageReference: PDIP8; Publisher: Altium Limited; PackageDescription: 8-Pin Plastic Dual In-Line Package (PDIP); Code_JEDEC: MS-001-BA; ComponentLink1Description: Manufacturer Link; ComponentLink1URL: http://www.altera.com/products/devices/config/cfg-index.html; ComponentLink2Description: Configuration Handbook; ComponentLink2URL: http://www.altera.com/literature/hb/cfg/config_handbook.pdf; ComponentLink3Description: Pinout Specification; ComponentLink3URL: http://www.altera.com/literature/hb/cfg/cfg_cf52004.pdf; ComponentLink4Description: Packaging Specification; ComponentLink4URL: http://www.altera.com/literature/ds/dspkg.pdf; ComponentLink5Description: Discontinuation Notice; ComponentLink5URL: http://www.altera.com/literature/pcn/pdn0314.pdf
footprint PDIP8 (DIP, 8-Leads, Row Spacing 7.62mm, Pitch 2.54mm, Body 9.4x6.35mm)
pins: 1 DATA (hiz) "Serial data out", 2 DCLK (io), 3 OE (io) "Output enable, and active low reset", 4 nCS (in) "Active low, chip select input", 5 GND (power) "Ground", 6 nCASC (out) "Active low, cascade select output", 7 VCC (power) "3.3V supply", 8 VCC (power) "3.3V supply"

## EPC1064VTC32
designator U?
EPC1064 Series, One-time programmable 3.3V configuration device, 32-Pin TQFP, 64-Kilobit, Commercial Grade; Configures: APEX II, APEX 20K, Mercury, ACEX 1K & FLEX Devices; Published: 24-Nov-2000; LatestRevisionDate: 13-Apr-2006; LatestRevisionNote: IPC-7351 Footprint Added.; DatasheetVersion: ver2.0, Oct-2003; PackageVersion: ver14.2, Oct-2005; PackageReference: TQFP32; Publisher: Altium Limited; PackageDescription: 32-Pin Plastic Thin Quad Flat Pack (TFQP32); Code_JEDEC: MS-026-ABA; ComponentLink1Description: Manufacturer Link; ComponentLink1URL: http://www.altera.com/products/devices/config/cfg-index.html; ComponentLink2Description: Configuration Handbook; ComponentLink2URL: http://www.altera.com/literature/hb/cfg/config_handbook.pdf; ComponentLink3Description: Pinout Specification; ComponentLink3URL: http://www.altera.com/literature/hb/cfg/cfg_cf52004.pdf; ComponentLink4Description: Packaging Specification; ComponentLink4URL: http://www.altera.com/literature/ds/dspkg.pdf
footprint TQFP32_N (Thin QFP, 32-Leads, Body 7x7mm, Pitch 0.8mm, IPC Medium Density)
footprint TQFP32_L (Thin QFP, 32-Leads, Body 7x7mm, Pitch 0.8mm, IPC High Density)
footprint TQFP32_M (Thin QFP, 32-Leads, Body 7x7mm, Pitch 0.8mm, IPC Low Density)
3D model EPC1064V-TQFP32 (32-Pin Plastic Thin Quad Flat Pack (TFQP32))
pins: 1 NC "No Connect", 2 DCLK (io), 3 NC "No Connect", 4 NC "No Connect", 5 NC "No Connect", 6 NC "No Connect", 7 OE (io) "Output enable, and active low reset", 8 NC "No Connect", 9 NC "No Connect", 10 nCS (in) "Active low, chip select input", 11 NC "No Connect", 12 GND (power) "Ground", 13 NC "No Connect", 14 NC "No Connect", 15 NC "No Connect", 16 NC "No Connect", 17 NC "No Connect", 18 NC "No Connect", 19 NC "No Connect", 20 NC "No Connect", 21 NC "No Connect", 22 NC "No Connect", 23 VCC (power) "Power Supply", 24 NC "No Connect", 25 NC "No Connect", 26 NC "No Connect", 27 VCC (power) "Power Supply", 28 NC "No Connect", 29 NC "No Connect", 30 NC "No Connect", 31 DATA (hiz) "Serial data out", 32 NC "No Connect"

## EPC1213LC20
designator U?
EPC1213 Series, One-time programmable 5V configuration device, 20-Pin PLCC, 208-Kilobit, Commercial Grade; Configures: APEX II, APEX 20K, Mercury, ACEX 1K & FLEX Devices; Published: 24-Nov-2000; LatestRevisionDate: 13-Apr-2006; LatestRevisionNote: IPC-7351 Footprint Added.; DatasheetVersion: ver2.0, Oct-2003; PackageVersion: ver14.2, Oct-2005; PackageReference: PLCC20; Publisher: Altium Limited; PackageDescription: 20-Pin Plastic J-Lead Chip Carrier (PLCC20); Supplier 1: Digi-Key; Supplier Part Number 1: 544-2188-5-ND; Code_JEDEC: MS-018-AA; Code_IPC: PLCC-20; ComponentLink1Description: Manufacturer Link; ComponentLink1URL: http://www.altera.com/products/devices/config/cfg-index.html; ComponentLink2Description: Configuration Handbook; ComponentLink2URL: http://www.altera.com/literature/hb/cfg/config_handbook.pdf; ComponentLink3Description: Pinout Specification; ComponentLink3URL: http://www.altera.com/literature/hb/cfg/cfg_cf52004.pdf; ComponentLink4Description: Packaging Specification; ComponentLink4URL: http://www.altera.com/literature/ds/dspkg.pdf
footprint PLCC20_N (Leaded Chip Carrier, 20-Leads, Body 9x9mm, Pitch 1.27mm, IPC Medium Density)
footprint PLCC20_L (Leaded Chip Carrier, 20-Leads, Body 9x9mm, Pitch 1.27mm, IPC High Density)
footprint PLCC20_M (Leaded Chip Carrier, 20-Leads, Body 9x9mm, Pitch 1.27mm, IPC Low Density)
3D model EPC1213-PLCC20 (20-Pin Plastic J-Lead Chip Carrier (PLCC20))
pins: 1 NC "No Connect", 2 DATA (hiz) "Serial data out", 3 NC "No Connect", 4 DCLK (io), 5 NC "No Connect", 6 NC "No Connect", 7 NC "No Connect", 8 OE (io) "Output enable, and active low reset", 9 nCS (in) "Active low, chip select input", 10 GND (power) "Ground", 11 NC "No Connect", 12 nCASC (out) "Active low, cascade select output", 13 NC "No Connect", 14 NC "No Connect", 15 NC "No Connect", 16 NC "No Connect", 17 NC "No Connect", 18 VCC (power) "Power Supply", 19 NC "No Connect", 20 VCC (power) "Power Supply"

## EPC1213LI20
designator U?
EPC1213 Series, One-time programmable 5V configuration device, 20-Pin PLCC, 208-Kilobit, Industrial Grade; Configures: APEX II, APEX 20K, Mercury, ACEX 1K & FLEX Devices; Published: 24-Nov-2000; LatestRevisionDate: 13-Apr-2006; LatestRevisionNote: IPC-7351 Footprint Added.; DatasheetVersion: ver2.0, Oct-2003; PackageVersion: ver14.2, Oct-2005; PackageReference: PLCC20; Publisher: Altium Limited; PackageDescription: 20-Pin Plastic J-Lead Chip Carrier (PLCC20); Supplier 1: Digi-Key; Supplier Part Number 1: 544-1369-5-ND; Code_JEDEC: MS-018-AA; Code_IPC: PLCC-20; ComponentLink1Description: Manufacturer Link; ComponentLink1URL: http://www.altera.com/products/devices/config/cfg-index.html; ComponentLink2Description: Configuration Handbook; ComponentLink2URL: http://www.altera.com/literature/hb/cfg/config_handbook.pdf; ComponentLink3Description: Pinout Specification; ComponentLink3URL: http://www.altera.com/literature/hb/cfg/cfg_cf52004.pdf; ComponentLink4Description: Packaging Specification; ComponentLink4URL: http://www.altera.com/literature/ds/dspkg.pdf
footprint PLCC20_N (Leaded Chip Carrier, 20-Leads, Body 9x9mm, Pitch 1.27mm, IPC Medium Density)
footprint PLCC20_L (Leaded Chip Carrier, 20-Leads, Body 9x9mm, Pitch 1.27mm, IPC High Density)
footprint PLCC20_M (Leaded Chip Carrier, 20-Leads, Body 9x9mm, Pitch 1.27mm, IPC Low Density)
3D model EPC1213-PLCC20 (20-Pin Plastic J-Lead Chip Carrier (PLCC20))
pins: 1 NC "No Connect", 2 DATA (hiz) "Serial data out", 3 NC "No Connect", 4 DCLK (io), 5 NC "No Connect", 6 NC "No Connect", 7 NC "No Connect", 8 OE (io) "Output enable, and active low reset", 9 nCS (in) "Active low, chip select input", 10 GND (power) "Ground", 11 NC "No Connect", 12 nCASC (out) "Active low, cascade select output", 13 NC "No Connect", 14 NC "No Connect", 15 NC "No Connect", 16 NC "No Connect", 17 NC "No Connect", 18 VCC (power) "Power Supply", 19 NC "No Connect", 20 VCC (power) "Power Supply"

## EPC1213PC8
designator U?
EPC1213 Series, One-time programmable 5V configuration device, 8-Pin PDIP, 208-Kilobit, Commercial Grade; Configures: APEX II, APEX 20K, Mercury, ACEX 1K & FLEX Devices; Published: 24-Nov-2000; LatestRevisionDate: 17-Dec-2003; LatestRevisionNote: Updated to Oct-2003 datasheet; DatasheetVersion: ver2.0, Oct-2003; PackageVersion: ver14.2, Oct-2005; PackageReference: PDIP8; Publisher: Altium Limited; PackageDescription: 8-Pin Plastic Dual In-Line Package (PDIP); Supplier 1: Digi-Key; Supplier Part Number 1: 544-1222-5-ND; Code_JEDEC: MS-001-BA; ComponentLink1Description: Manufacturer Link; ComponentLink1URL: http://www.altera.com/products/devices/config/cfg-index.html; ComponentLink2Description: Configuration Handbook; ComponentLink2URL: http://www.altera.com/literature/hb/cfg/config_handbook.pdf; ComponentLink3Description: Pinout Specification; ComponentLink3URL: http://www.altera.com/literature/hb/cfg/cfg_cf52004.pdf; ComponentLink4Description: Packaging Specification; ComponentLink4URL: http://www.altera.com/literature/ds/dspkg.pdf
footprint PDIP8 (DIP, 8-Leads, Row Spacing 7.62mm, Pitch 2.54mm, Body 9.4x6.35mm)
pins: 1 DATA (hiz) "Serial data out", 2 DCLK (io), 3 OE (io) "Output enable, and active low reset", 4 nCS (in) "Active low, chip select input", 5 GND (power) "Ground", 6 nCASC (out) "Active low, cascade select output", 7 VCC (power) "3.3V supply", 8 VCC (power) "3.3V supply"

## EPC1213PI8
designator U?
EPC1213 Series, One-time programmable 5V configuration device, 8-Pin PDIP, 208-Kilobit, Industrial Grade; Configures: APEX II, APEX 20K, Mercury, ACEX 1K & FLEX Devices; Published: 24-Nov-2000; LatestRevisionDate: 17-Dec-2003; LatestRevisionNote: Updated to Oct-2003 datasheet; DatasheetVersion: ver2.0, Oct-2003; PackageVersion: ver14.2, Oct-2005; PackageReference: PDIP8; Publisher: Altium Limited; PackageDescription: 8-Pin Plastic Dual In-Line Package (PDIP); Supplier 1: Digi-Key; Supplier Part Number 1: 544-1370-5-ND; Code_JEDEC: MS-001-BA; ComponentLink1Description: Manufacturer Link; ComponentLink1URL: http://www.altera.com/products/devices/config/cfg-index.html; ComponentLink2Description: Configuration Handbook; ComponentLink2URL: http://www.altera.com/literature/hb/cfg/config_handbook.pdf; ComponentLink3Description: Pinout Specification; ComponentLink3URL: http://www.altera.com/literature/hb/cfg/cfg_cf52004.pdf; ComponentLink4Description: Packaging Specification; ComponentLink4URL: http://www.altera.com/literature/ds/dspkg.pdf
footprint PDIP8 (DIP, 8-Leads, Row Spacing 7.62mm, Pitch 2.54mm, Body 9.4x6.35mm)
pins: 1 DATA (hiz) "Serial data out", 2 DCLK (io), 3 OE (io) "Output enable, and active low reset", 4 nCS (in) "Active low, chip select input", 5 GND (power) "Ground", 6 nCASC (out) "Active low, cascade select output", 7 VCC (power) "3.3V supply", 8 VCC (power) "3.3V supply"

## EPC1441LC20
designator U?
EPC1441 Series, One-time programmable 3.3 or 5V configuration device, 20-Pin PLCC, 441-Kilobit, Commercial Grade; Configures: All FLEX & ACEX Devices; Published: 17-Sep-2003; LatestRevisionDate: 13-Apr-2006; LatestRevisionNote: IPC-7351 Footprint Added.; DatasheetVersion: ver2.0, Oct-2003; PackageVersion: ver14.2, Oct-2005; PackageReference: PLCC20; Publisher: Altium Limited; PackageDescription: 20-Pin Plastic J-Lead Chip Carrier (PLCC20); Supplier 1: Digi-Key; Supplier Part Number 1: 544-1223-5-ND; Code_JEDEC: MS-018-AA; Code_IPC: PLCC-20; ComponentLink1Description: Manufacturer Link; ComponentLink1URL: http://www.altera.com/products/devices/config/cfg-index.html; ComponentLink2Description: Configuration Handbook; ComponentLink2URL: http://www.altera.com/literature/hb/cfg/config_handbook.pdf; ComponentLink3Description: Pinout Specification; ComponentLink3URL: http://www.altera.com/literature/hb/cfg/cfg_cf52004.pdf; ComponentLink4Description: Packaging Specification; ComponentLink4URL: http://www.altera.com/literature/ds/dspkg.pdf
footprint PLCC20_N (Leaded Chip Carrier, 20-Leads, Body 9x9mm, Pitch 1.27mm, IPC Medium Density)
footprint PLCC20_L (Leaded Chip Carrier, 20-Leads, Body 9x9mm, Pitch 1.27mm, IPC High Density)
footprint PLCC20_M (Leaded Chip Carrier, 20-Leads, Body 9x9mm, Pitch 1.27mm, IPC Low Density)
3D model EPC1441-PLCC20 (20-Pin Plastic J-Lead Chip Carrier (PLCC20))
pins: 1 NC "No Connect", 2 DATA (hiz) "Serial data out", 3 NC "No Connect", 4 DCLK (io), 5 NC "No Connect", 6 NC "No Connect", 7 NC "No Connect", 8 OE (io) "Output enable, and active low reset", 9 nCS (in) "Active low, chip select input", 10 GND (power) "Ground", 11 NC "No Connect", 12 reserved (out) "Do not connect", 13 NC "No Connect", 14 NC "No Connect", 15 NC "No Connect", 16 NC "No Connect", 17 NC "No Connect", 18 VCC (power) "Power Supply", 19 NC "No Connect", 20 VCC (power) "Power Supply"

## EPC1441LI20
designator U?
EPC1441 Series, One-time programmable 3.3 or 5V configuration device, 20-Pin PLCC, 441-Kilobit, Industrial Grade; Configures: All FLEX & ACEX Devices; Published: 17-Sep-2003; LatestRevisionDate: 13-Apr-2006; LatestRevisionNote: IPC-7351 Footprint Added.; DatasheetVersion: ver2.0, Oct-2003; PackageVersion: ver14.2, Oct-2005; PackageReference: PLCC20; Publisher: Altium Limited; PackageDescription: 20-Pin Plastic J-Lead Chip Carrier (PLCC20); Code_JEDEC: MS-018-AA; Code_IPC: PLCC-20; ComponentLink1Description: Manufacturer Link; ComponentLink1URL: http://www.altera.com/products/devices/config/cfg-index.html; ComponentLink2Description: Configuration Handbook; ComponentLink2URL: http://www.altera.com/literature/hb/cfg/config_handbook.pdf; ComponentLink3Description: Pinout Specification; ComponentLink3URL: http://www.altera.com/literature/hb/cfg/cfg_cf52004.pdf; ComponentLink4Description: Packaging Specification; ComponentLink4URL: http://www.altera.com/literature/ds/dspkg.pdf
footprint PLCC20_N (Leaded Chip Carrier, 20-Leads, Body 9x9mm, Pitch 1.27mm, IPC Medium Density)
footprint PLCC20_L (Leaded Chip Carrier, 20-Leads, Body 9x9mm, Pitch 1.27mm, IPC High Density)
footprint PLCC20_M (Leaded Chip Carrier, 20-Leads, Body 9x9mm, Pitch 1.27mm, IPC Low Density)
3D model EPC1441-PLCC20 (20-Pin Plastic J-Lead Chip Carrier (PLCC20))
pins: 1 NC "No Connect", 2 DATA (hiz) "Serial data out", 3 NC "No Connect", 4 DCLK (io), 5 NC "No Connect", 6 NC "No Connect", 7 NC "No Connect", 8 OE (io) "Output enable, and active low reset", 9 nCS (in) "Active low, chip select input", 10 GND (power) "Ground", 11 NC "No Connect", 12 reserved (out) "Do not connect", 13 NC "No Connect", 14 NC "No Connect", 15 NC "No Connect", 16 NC "No Connect", 17 NC "No Connect", 18 VCC (power) "Power Supply", 19 NC "No Connect", 20 VCC (power) "Power Supply"

## EPC1441PC8
designator U?
EPC1441 Series, One-time programmable 3.3 or 5V configuration device, 8-Pin PDIP, 441-Kilobit, Commercial Grade; Configures: All FLEX & ACEX Devices; Published: 17-Sep-2003; DatasheetVersion: ver2.0, Oct-2003; PackageVersion: ver14.2, Oct-2005; PackageReference: PDIP8; Publisher: Altium Limited; PackageDescription: 8-Pin Plastic Dual In-Line Package (PDIP); Supplier 1: Digi-Key; Supplier Part Number 1: 544-1224-5-ND; Supplier 2: Farnell; Supplier Part Number 2: 3851503; Code_JEDEC: MS-001-BA; ComponentLink1Description: Manufacturer Link; ComponentLink1URL: http://www.altera.com/products/devices/config/cfg-index.html; ComponentLink2Description: Configuration Handbook; ComponentLink2URL: http://www.altera.com/literature/hb/cfg/config_handbook.pdf; ComponentLink3Description: Pinout Specification; ComponentLink3URL: http://www.altera.com/literature/hb/cfg/cfg_cf52004.pdf; ComponentLink4Description: Packaging Specification; ComponentLink4URL: http://www.altera.com/literature/ds/dspkg.pdf
footprint PDIP8 (DIP, 8-Leads, Row Spacing 7.62mm, Pitch 2.54mm, Body 9.4x6.35mm)
pins: 1 DATA (hiz) "Serial data out", 2 DCLK (io), 3 OE (io) "Output enable, and active low reset", 4 nCS (in) "Active low, chip select input", 5 GND (power) "Ground", 6 reserved "Do not connect", 7 VCC (power) "3.3V supply", 8 VCC (power) "3.3V supply"

## EPC1441PI8
designator U?
EPC1441 Series, One-time programmable 3.3 or 5V configuration device, 8-Pin PDIP, 441-Kilobit, Industrial Grade; Configures: All FLEX & ACEX Devices; Published: 17-Sep-2003; DatasheetVersion: ver2.0, Oct-2003; PackageVersion: ver14.2, Oct-2005; PackageReference: PDIP8; Publisher: Altium Limited; PackageDescription: 8-Pin Plastic Dual In-Line Package (PDIP); Supplier 1: Digi-Key; Supplier Part Number 1: 544-1225-5-ND; Code_JEDEC: MS-001-BA; ComponentLink1Description: Manufacturer Link; ComponentLink1URL: http://www.altera.com/products/devices/config/cfg-index.html; ComponentLink2Description: Configuration Handbook; ComponentLink2URL: http://www.altera.com/literature/hb/cfg/config_handbook.pdf; ComponentLink3Description: Pinout Specification; ComponentLink3URL: http://www.altera.com/literature/hb/cfg/cfg_cf52004.pdf; ComponentLink4Description: Packaging Specification; ComponentLink4URL: http://www.altera.com/literature/ds/dspkg.pdf
footprint PDIP8 (DIP, 8-Leads, Row Spacing 7.62mm, Pitch 2.54mm, Body 9.4x6.35mm)
pins: 1 DATA (hiz) "Serial data out", 2 DCLK (io), 3 OE (io) "Output enable, and active low reset", 4 nCS (in) "Active low, chip select input", 5 GND (power) "Ground", 6 reserved "Do not connect", 7 VCC (power) "3.3V supply", 8 VCC (power) "3.3V supply"

## EPC1441TC32
designator U?
EPC1441 Series, One-time programmable 3.3 or 5V configuration device, 32-Pin TQFP, 441-Kilobit, Commercial Grade; Configures: All FLEX & ACEX Devices; Published: 17-Sep-2003; LatestRevisionDate: 13-Apr-2006; LatestRevisionNote: IPC-7351 Footprint Added.; DatasheetVersion: ver2.0, Oct-2003; PackageVersion: ver14.2, Oct-2005; PackageReference: TQFP32; Publisher: Altium Limited; PackageDescription: 32-Pin Plastic Thin Quad Flat Pack (TFQP32); Supplier 1: Digi-Key; Supplier Part Number 1: 544-1372-ND; Code_JEDEC: MS-026-ABA; ComponentLink1Description: Manufacturer Link; ComponentLink1URL: http://www.altera.com/products/devices/config/cfg-index.html; ComponentLink2Description: Configuration Handbook; ComponentLink2URL: http://www.altera.com/literature/hb/cfg/config_handbook.pdf; ComponentLink3Description: Pinout Specification; ComponentLink3URL: http://www.altera.com/literature/hb/cfg/cfg_cf52004.pdf; ComponentLink4Description: Packaging Specification; ComponentLink4URL: http://www.altera.com/literature/ds/dspkg.pdf
footprint TQFP32_N (Thin QFP, 32-Leads, Body 7x7mm, Pitch 0.8mm, IPC Medium Density)
footprint TQFP32_L (Thin QFP, 32-Leads, Body 7x7mm, Pitch 0.8mm, IPC High Density)
footprint TQFP32_M (Thin QFP, 32-Leads, Body 7x7mm, Pitch 0.8mm, IPC Low Density)
3D model EPC1441-TQFP32 (32-Pin Plastic Thin Quad Flat Pack (TFQP32))
pins: 1 NC "No Connect", 2 DCLK (io), 3 NC "No Connect", 4 NC "No Connect", 5 NC "No Connect", 6 NC "No Connect", 7 OE (io) "Output enable, and active low reset", 8 NC "No Connect", 9 NC "No Connect", 10 nCS (in) "Active low, chip select input", 11 NC "No Connect", 12 GND (power) "Ground", 13 NC "No Connect", 14 NC "No Connect", 15 NC "No Connect", 16 NC "No Connect", 17 NC "No Connect", 18 NC "No Connect", 19 NC "No Connect", 20 NC "No Connect", 21 NC "No Connect", 22 NC "No Connect", 23 VCC (power) "Power Supply", 24 NC "No Connect", 25 NC "No Connect", 26 NC "No Connect", 27 VCC (power) "Power Supply", 28 NC "No Connect", 29 NC "No Connect", 30 NC "No Connect", 31 DATA (hiz) "Serial data out", 32 NC "No Connect"